# Altium integrated library Capacitors - Aluminum - Electrolytic SMT.IntLib: 1988 symbols (part 26 of 50)
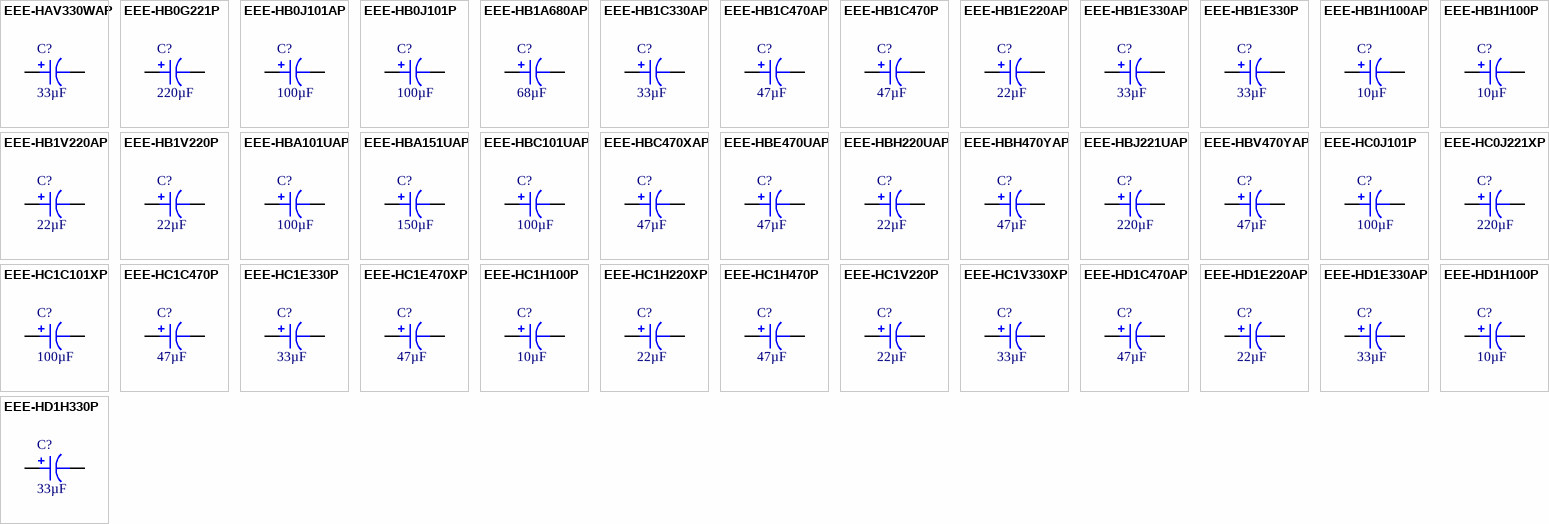
[diagram p73: symbols EEE-HAV330WAP to EEE-HD1H330P]

## EEE-HC1V220P
designator C?, comment 22µF
CAP ALUM 22UF 20% 35V SMD; Part Number: EEE-HC1V220P; Manufacturer: Panasonic Electronic Components; Lifetime @ Temp.: 3000 Hrs @ 105°C; Polarization: Polar; Ripple Current @ High Frequency: 93.5mA @ 10kHz; Ripple Current @ Low Frequency: 55mA @ 120Hz; Surface Mount Land Size: 0.260" L x 0.260" W (6.60mm x 6.60mm); Applications: Automotive; Capacitance: 22µF; ComponentLink1Description: Datasheet; ComponentLink1URL: http://industrial.panasonic.com/www-cgi/jvcr13pz.cgi?E+PZ+3+ABA0109+EEEHC1V220P+7+WW; ComponentLink2Description: DigiKey Link; ComponentLink2URL: http://digikey.com/product-detail/en/panasonic-electronic-components/EEE-HC1V220P/PCE3758CT-ND/672812; Device Package: Radial, Can - SMD; Height - Seated (Max): 0.228" (5.80mm); LastUpdated: 9/2/2020 1:18:39 AM; Lifecycle Status: Active; Minimum Order: 1; Mounting Type: Surface Mount; Operating Temperature: -40°C ~ 105°C; Package / Case: Radial, Can - SMD; Packaging: TapeAndReel; PartId: 9017; Part Status: Active; Price: 0.11; Ratings: AEC-Q200; Series: HC; Size / Dimension: 0.248" Dia (6.30mm); Supplier 1: DigiKey; Supplier Part Number 1: PCE3758CT-ND; Tolerance: ±20%; Value: 22µF; Voltage - Rated: 35V
footprint CAP ALSMD 6.6MM H6.1MM
pins: 1, 2

## EEE-HC1V330XP
designator C?, comment 33µF
CAP ALUM 33UF 20% 35V SMD; Part Number: EEE-HC1V330XP; Manufacturer: Panasonic Electronic Components; Lifetime @ Temp.: 3000 Hrs @ 105°C; Polarization: Polar; Ripple Current @ High Frequency: 96.9mA @ 10kHz; Ripple Current @ Low Frequency: 57mA @ 120Hz; Surface Mount Land Size: 0.260" L x 0.260" W (6.60mm x 6.60mm); Applications: Automotive; Capacitance: 33µF; ComponentLink1Description: Datasheet; ComponentLink1URL: http://industrial.panasonic.com/www-cgi/jvcr13pz.cgi?E+PZ+3+ABA0109+EEEHC1V330XP+7+WW; ComponentLink2Description: DigiKey Link; ComponentLink2URL: http://digikey.com/product-detail/en/panasonic-electronic-components/EEE-HC1V330XP/PCE3759CT-ND/672813; Device Package: Radial, Can - SMD; Height - Seated (Max): 0.303" (7.70mm); LastUpdated: 9/2/2020 1:25:35 AM; Lifecycle Status: Active; Minimum Order: 1; Mounting Type: Surface Mount; Operating Temperature: -40°C ~ 105°C; Package / Case: Radial, Can - SMD; Packaging: TapeAndReel; PartId: 8239; Part Status: Active; Price: 0.15; Ratings: AEC-Q200; Series: HC; Size / Dimension: 0.248" Dia (6.30mm); Supplier 1: DigiKey; Supplier Part Number 1: PCE3759CT-ND; Tolerance: ±20%; Value: 33µF; Voltage - Rated: 35V
footprint CAP ALSMD 6.6MM H7.7MM
pins: 1, 2

## EEE-HD1C470AP
designator C?, comment 47µF
CAP ALUM 47UF 20% 16V SMD; Part Number: EEE-HD1C470AP; Manufacturer: Panasonic Electronic Components; Impedance: 4 Ohms; Lifetime @ Temp.: 5000 Hrs @ 105°C; Polarization: Polar; Ripple Current @ High Frequency: 119mA @ 10kHz; Ripple Current @ Low Frequency: 70mA @ 120Hz; Surface Mount Land Size: 0.260" L x 0.260" W (6.60mm x 6.60mm); Applications: Automotive, High Temperature Reflow; Capacitance: 47µF; ComponentLink1Description: Datasheet; ComponentLink1URL: https://industrial.panasonic.com/cdbs/www-data/pdf/RDE0000/ABA0000C1163.pdf; ComponentLink2Description: DigiKey Link; ComponentLink2URL: http://digikey.com/product-detail/en/panasonic-electronic-components/EEE-HD1C470AP/PCE4951CT-ND/1985173; Device Package: Radial, Can - SMD; Height - Seated (Max): 0.228" (5.80mm); LastUpdated: 9/2/2020 1:18:37 AM; Lifecycle Status: Active; Minimum Order: 1; Mounting Type: Surface Mount; Operating Temperature: -40°C ~ 105°C; Package / Case: Radial, Can - SMD; Packaging: TapeAndReel; PartId: 8836; Part Status: Active; Price: 0.13; Ratings: AEC-Q200; Series: HD-V; Size / Dimension: 0.248" Dia (6.30mm); Supplier 1: DigiKey; Supplier Part Number 1: PCE4951CT-ND; Tolerance: ±20%; Value: 47µF; Voltage - Rated: 16V
footprint CAP ALSMD 6.6MM H6.1MM
pins: 1, 2

## EEE-HD1E220AP
designator C?, comment 22µF
CAP ALUM 22UF 20% 25V SMD; Part Number: EEE-HD1E220AP; Manufacturer: Panasonic Electronic Components; Impedance: 4 Ohms; Lifetime @ Temp.: 5000 Hrs @ 105°C; Polarization: Polar; Ripple Current @ High Frequency: 93.5mA @ 10kHz; Ripple Current @ Low Frequency: 55mA @ 120Hz; Surface Mount Land Size: 0.260" L x 0.260" W (6.60mm x 6.60mm); Applications: Automotive, High Temperature Reflow; Capacitance: 22µF; ComponentLink1Description: Datasheet; ComponentLink1URL: https://industrial.panasonic.com/cdbs/www-data/pdf/RDE0000/ABA0000C1163.pdf; ComponentLink2Description: DigiKey Link; ComponentLink2URL: http://digikey.com/product-detail/en/panasonic-electronic-components/EEE-HD1E220AP/PCE4957CT-ND/1985179; Device Package: Radial, Can - SMD; Height - Seated (Max): 0.228" (5.80mm); LastUpdated: 9/2/2020 1:18:38 AM; Lifecycle Status: Active; Minimum Order: 1; Mounting Type: Surface Mount; Operating Temperature: -40°C ~ 105°C; Package / Case: Radial, Can - SMD; Packaging: TapeAndReel; PartId: 8923; Part Status: Active; Price: 0.13; Ratings: AEC-Q200; Series: HD-V; Size / Dimension: 0.248" Dia (6.30mm); Supplier 1: DigiKey; Supplier Part Number 1: PCE4957CT-ND; Tolerance: ±20%; Value: 22µF; Voltage - Rated: 25V
footprint CAP ALSMD 6.6MM H6.1MM
pins: 1, 2

## EEE-HD1E330AP
designator C?, comment 33µF
CAP ALUM 33UF 20% 25V SMD; Part Number: EEE-HD1E330AP; Manufacturer: Panasonic Electronic Components; Impedance: 4 Ohms; Lifetime @ Temp.: 5000 Hrs @ 105°C; Polarization: Polar; Ripple Current @ High Frequency: 93.5mA @ 10kHz; Ripple Current @ Low Frequency: 55mA @ 120Hz; Surface Mount Land Size: 0.260" L x 0.260" W (6.60mm x 6.60mm); Applications: Automotive, High Temperature Reflow; Capacitance: 33µF; ComponentLink1Description: Datasheet; ComponentLink1URL: https://industrial.panasonic.com/cdbs/www-data/pdf/RDE0000/ABA0000C1163.pdf; ComponentLink2Description: DigiKey Link; ComponentLink2URL: http://digikey.com/product-detail/en/panasonic-electronic-components/EEE-HD1E330AP/PCE4958CT-ND/1985180; Device Package: Radial, Can - SMD; Height - Seated (Max): 0.228" (5.80mm); LastUpdated: 9/2/2020 1:18:37 AM; Lifecycle Status: Active; Minimum Order: 1; Mounting Type: Surface Mount; Operating Temperature: -40°C ~ 105°C; Package / Case: Radial, Can - SMD; Packaging: TapeAndReel; PartId: 8835; Part Status: Active; Price: 0.13; Ratings: AEC-Q200; Series: HD-V; Size / Dimension: 0.248" Dia (6.30mm); Supplier 1: DigiKey; Supplier Part Number 1: PCE4958CT-ND; Tolerance: ±20%; Value: 33µF; Voltage - Rated: 25V
footprint CAP ALSMD 6.6MM H6.1MM
pins: 1, 2

## EEE-HD1H100P
designator C?, comment 10µF
CAP ALUM 10UF 20% 50V SMD; Part Number: EEE-HD1H100P; Manufacturer: Panasonic Electronic Components; Impedance: 4 Ohms; Lifetime @ Temp.: 5000 Hrs @ 105°C; Polarization: Polar; Ripple Current @ High Frequency: 56.1mA @ 10kHz; Ripple Current @ Low Frequency: 33mA @ 120Hz; Surface Mount Land Size: 0.260" L x 0.260" W (6.60mm x 6.60mm); Applications: Automotive, High Temperature Reflow; Capacitance: 10µF; ComponentLink1Description: Datasheet; ComponentLink1URL: http://industrial.panasonic.com/www-cgi/jvcr13pz.cgi?E+PZ+4+ABA0100+EEEHD1H100P+8+WW; ComponentLink2Description: DigiKey Link; ComponentLink2URL: http://digikey.com/product-detail/en/panasonic-electronic-components/EEE-HD1H100P/PCE4976CT-ND/1985198; Device Package: Radial, Can - SMD; Height - Seated (Max): 0.240" (6.10mm); LastUpdated: 9/2/2020 1:25:26 AM; Lifecycle Status: Active; Minimum Order: 1; Mounting Type: Surface Mount; Operating Temperature: -40°C ~ 105°C; Package / Case: Radial, Can - SMD; Packaging: TapeAndReel; PartId: 8144; Part Status: Active; Price: 0.12; Ratings: AEC-Q200; Series: HD-V; Size / Dimension: 0.248" Dia (6.30mm); Supplier 1: DigiKey; Supplier Part Number 1: PCE4976CT-ND; Tolerance: ±20%; Value: 10µF; Voltage - Rated: 50V
footprint CAP ALSMD 6.6MM H6.1MM
pins: 1, 2

## EEE-HD1H330P
designator C?, comment 33µF
CAP ALUM 33UF 20% 50V SMD; Part Number: EEE-HD1H330P; Manufacturer: Panasonic Electronic Components; Impedance: 1.5 Ohms; Lifetime @ Temp.: 5000 Hrs @ 105°C; Polarization: Polar; Ripple Current @ High Frequency: 125.8mA @ 10kHz; Ripple Current @ Low Frequency: 74mA @ 120Hz; Surface Mount Land Size: 0.327" L x 0.327" W (8.30mm x 8.30mm); Applications: Automotive, High Temperature Reflow; Capacitance: 33µF; ComponentLink1Description: Datasheet; ComponentLink1URL: http://industrial.panasonic.com/www-cgi/jvcr13pz.cgi?E+PZ+4+ABA0100+EEEHD1H330P+8+WW; ComponentLink2Description: DigiKey Link; ComponentLink2URL: http://digikey.com/product-detail/en/panasonic-electronic-components/EEE-HD1H330P/PCE4978CT-ND/1985200; Device Package: Radial, Can - SMD; Height - Seated (Max): 0.413" (10.50mm); LastUpdated: 9/2/2020 1:25:14 AM; Lifecycle Status: Active; Minimum Order: 1; Mounting Type: Surface Mount; Operating Temperature: -40°C ~ 105°C; Package / Case: Radial, Can - SMD; Packaging: TapeAndReel; PartId: 7695; Part Status: Active; Price: 0.28; Ratings: AEC-Q200; Series: HD-V; Size / Dimension: 0.315" Dia (8.00mm); Supplier 1: DigiKey; Supplier Part Number 1: PCE4978CT-ND; Tolerance: ±20%; Value: 33µF; Voltage - Rated: 50V
footprint CAP ALSMD 8.3MM H10.5MM
pins: 1, 2

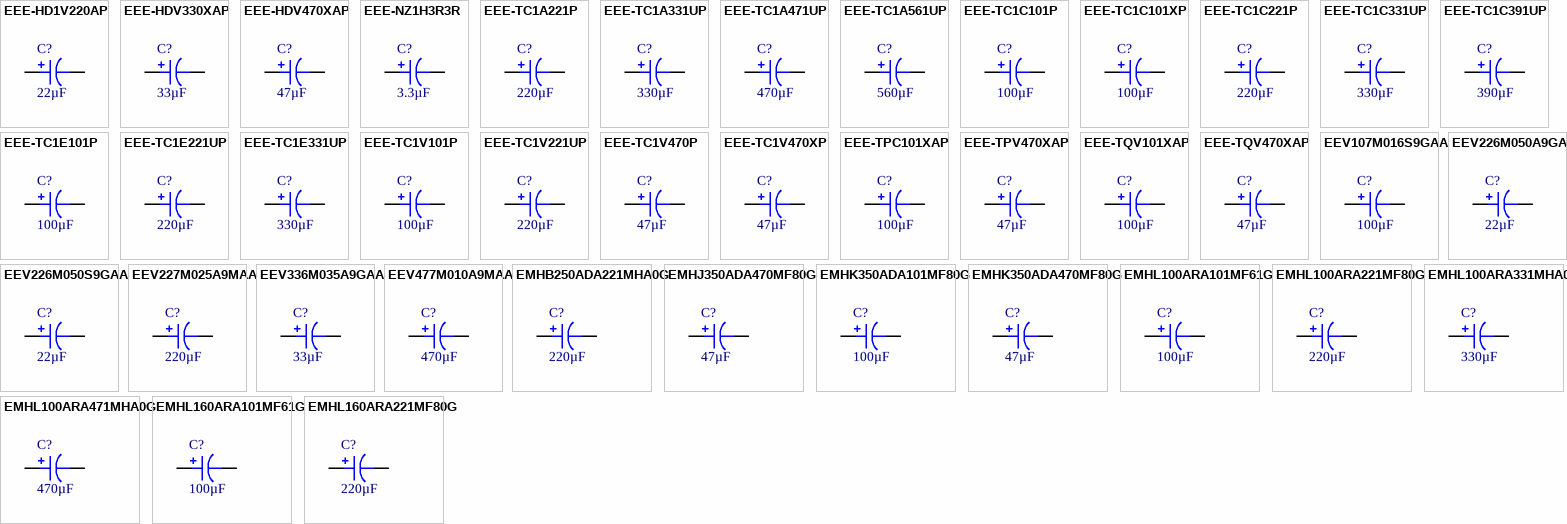
[diagram p25: symbols EEE-HD1V220AP to EMHL160ARA221MF80G]

## EEE-HD1V220AP
designator C?, comment 22µF
CAP ALUM 22UF 20% 35V SMD; Part Number: EEE-HD1V220AP; Manufacturer: Panasonic Electronic Components; Impedance: 4 Ohms; Lifetime @ Temp.: 5000 Hrs @ 105°C; Polarization: Polar; Ripple Current @ High Frequency: 93.5mA @ 10kHz; Ripple Current @ Low Frequency: 55mA @ 120Hz; Surface Mount Land Size: 0.260" L x 0.260" W (6.60mm x 6.60mm); Applications: Automotive, High Temperature Reflow; Capacitance: 22µF; ComponentLink1Description: Datasheet; ComponentLink1URL: https://industrial.panasonic.com/cdbs/www-data/pdf/RDE0000/ABA0000C1163.pdf; ComponentLink2Description: DigiKey Link; ComponentLink2URL: http://digikey.com/product-detail/en/panasonic-electronic-components/EEE-HD1V220AP/PCE4964CT-ND/1985186; Device Package: Radial, Can - SMD; Height - Seated (Max): 0.228" (5.80mm); LastUpdated: 9/2/2020 1:18:38 AM; Lifecycle Status: Active; Minimum Order: 1; Mounting Type: Surface Mount; Operating Temperature: -40°C ~ 105°C; Package / Case: Radial, Can - SMD; Packaging: TapeAndReel; PartId: 8895; Part Status: Active; Price: 0.11; Ratings: AEC-Q200; Series: HD-V; Size / Dimension: 0.248" Dia (6.30mm); Supplier 1: DigiKey; Supplier Part Number 1: PCE4964CT-ND; Tolerance: ±20%; Value: 22µF; Voltage - Rated: 35V
footprint CAP ALSMD 6.6MM H6.1MM
pins: 1, 2

## EEE-HDV330XAP
designator C?, comment 33µF
CAP ALUM 33UF 20% 35V SMD; Part Number: EEE-HDV330XAP; Manufacturer: Panasonic Electronic Components; Impedance: 2 Ohms; Lifetime @ Temp.: 5000 Hrs @ 105°C; Polarization: Polar; Ripple Current @ High Frequency: 96.9mA @ 10kHz; Ripple Current @ Low Frequency: 57mA @ 120Hz; Surface Mount Land Size: 0.260" L x 0.260" W (6.60mm x 6.60mm); Applications: Automotive, High Temperature Reflow; Capacitance: 33µF; ComponentLink1Description: Datasheet; ComponentLink1URL: http://industrial.panasonic.com/www-cgi/jvcr13pz.cgi?E+PZ+4+ABA0100+EEEHDV330XAP+8+WW; ComponentLink2Description: DigiKey Link; ComponentLink2URL: http://digikey.com/product-detail/en/panasonic-electronic-components/EEE-HDV330XAP/PCE4966CT-ND/1985188; Device Package: Radial, Can - SMD; Height - Seated (Max): 0.303" (7.70mm); LastUpdated: 9/2/2020 1:25:35 AM; Lifecycle Status: Active; Minimum Order: 1; Mounting Type: Surface Mount; Operating Temperature: -40°C ~ 105°C; Package / Case: Radial, Can - SMD; Packaging: TapeAndReel; PartId: 8244; Part Status: Active; Price: 0.16; Ratings: AEC-Q200; Series: HD-V; Size / Dimension: 0.248" Dia (6.30mm); Supplier 1: DigiKey; Supplier Part Number 1: PCE4966CT-ND; Tolerance: ±20%; Value: 33µF; Voltage - Rated: 35V
footprint CAP ALSMD 6.6MM H7.7MM
pins: 1, 2

## EEE-HDV470XAP
designator C?, comment 47µF
CAP ALUM 47UF 20% 35V SMD; Part Number: EEE-HDV470XAP; Manufacturer: Panasonic Electronic Components; Impedance: 2 Ohms; Lifetime @ Temp.: 5000 Hrs @ 105°C; Polarization: Polar; Ripple Current @ High Frequency: 96.9mA @ 10kHz; Ripple Current @ Low Frequency: 57mA @ 120Hz; Surface Mount Land Size: 0.260" L x 0.260" W (6.60mm x 6.60mm); Applications: Automotive, High Temperature Reflow; Capacitance: 47µF; ComponentLink1Description: Datasheet; ComponentLink1URL: http://industrial.panasonic.com/www-cgi/jvcr13pz.cgi?E+PZ+4+ABA0100+EEEHDV470XAP+8+WW; ComponentLink2Description: DigiKey Link; ComponentLink2URL: http://digikey.com/product-detail/en/panasonic-electronic-components/EEE-HDV470XAP/PCE4968CT-ND/1985190; Device Package: Radial, Can - SMD; Height - Seated (Max): 0.303" (7.70mm); LastUpdated: 9/2/2020 1:25:35 AM; Lifecycle Status: Active; Minimum Order: 1; Mounting Type: Surface Mount; Operating Temperature: -40°C ~ 105°C; Package / Case: Radial, Can - SMD; Packaging: TapeAndReel; PartId: 8204; Part Status: Active; Price: 0.16; Ratings: AEC-Q200; Series: HD-V; Size / Dimension: 0.248" Dia (6.30mm); Supplier 1: DigiKey; Supplier Part Number 1: PCE4968CT-ND; Tolerance: ±20%; Value: 47µF; Voltage - Rated: 35V
footprint CAP ALSMD 6.6MM H7.7MM
pins: 1, 2

## EEE-NZ1H3R3R
designator C?, comment 3.3µF
CAP ALUM 3.3UF 20% 50V SMD; Part Number: EEE-NZ1H3R3R; Manufacturer: Panasonic Electronic Components; Lifetime @ Temp.: 2000 Hrs @ 85°C; Polarization: Bi-Polar; Ripple Current @ High Frequency: 35.7mA @ 10kHz; Ripple Current @ Low Frequency: 21mA @ 120Hz; Surface Mount Land Size: 0.209" L x 0.209" W (5.30mm x 5.30mm); Applications: Automotive; Capacitance: 3.3µF; ComponentLink1Description: Datasheet; ComponentLink1URL: //media.digikey.com/pdf/Data%20Sheets/Panasonic%20Electronic%20Components/S_Series,Type_V_Rev2018.pdf; ComponentLink2Description: DigiKey Link; ComponentLink2URL: http://digikey.com/product-detail/en/panasonic-electronic-components/EEE-NZ1H3R3R/PCE4305CT-ND/946240; Device Package: Radial, Can - SMD; Height - Seated (Max): 0.213" (5.40mm); LastUpdated: 9/2/2020 1:25:24 AM; Lifecycle Status: Active; Minimum Order: 1; Mounting Type: Surface Mount; Operating Temperature: -40°C ~ 85°C; Package / Case: Radial, Can - SMD; Packaging: TapeAndReel; PartId: 7885; Part Status: Active; Price: 0.10; Ratings: AEC-Q200; Series: S; Size / Dimension: 0.197" Dia (5.00mm); Supplier 1: DigiKey; Supplier Part Number 1: PCE4305CT-ND; Tolerance: ±20%; Value: 3.3µF; Voltage - Rated: 50V
footprint CAP ALSMD 5.3MM H5.4MM
pins: 1, 2

## EEE-TC1A221P
designator C?, comment 220µF
CAP ALUM 220UF 20% 10V SMD; Part Number: EEE-TC1A221P; Manufacturer: Panasonic Electronic Components; ESR (Equivalent Series Resistance): 200mOhm @ 100kHz; Lifetime @ Temp.: 3000 Hrs @ 125°C; Polarization: Polar; Ripple Current @ Low Frequency: 266.5mA @ 120Hz; Surface Mount Land Size: 0.327" L x 0.327" W (8.30mm x 8.30mm); Applications: Automotive, High Temperature Reflow; Capacitance: 220µF; ComponentLink1Description: Datasheet; ComponentLink1URL: https://na.industrial.panasonic.com/file-download/3053; ComponentLink2Description: DigiKey Link; ComponentLink2URL: http://digikey.com/product-detail/en/panasonic-electronic-components/EEE-TC1A221P/PCE5122CT-ND/6049013; Device Package: Radial, Can - SMD; Height - Seated (Max): 0.413" (10.50mm); LastUpdated: 9/2/2020 1:25:15 AM; Lifecycle Status: Active; Minimum Order: 1; Mounting Type: Surface Mount; Operating Temperature: -40°C ~ 125°C; Package / Case: Radial, Can - SMD; Packaging: TapeAndReel; PartId: 7584; Part Status: Active; Price: 0.33; Ratings: AEC-Q200; Series: TC; Size / Dimension: 0.315" Dia (8.00mm); Supplier 1: DigiKey; Supplier Part Number 1: PCE5122CT-ND; Tolerance: ±20%; Value: 220µF; Voltage - Rated: 10V
footprint CAP ALSMD 8.3MM H10.5MM
pins: 1, 2

## EEE-TC1A331UP
designator C?, comment 330µF
CAP ALUM 330UF 20% 10V SMD; Part Number: EEE-TC1A331UP; Manufacturer: Panasonic Electronic Components; ESR (Equivalent Series Resistance): 200mOhm @ 100kHz; Lifetime @ Temp.: 3000 Hrs @ 125°C; Polarization: Polar; Ripple Current @ High Frequency: 410mA @ 100kHz; Ripple Current @ Low Frequency: 266.5mA @ 120Hz; Surface Mount Land Size: 0.327" L x 0.327" W (8.30mm x 8.30mm); Applications: Automotive, High Temperature Reflow; Capacitance: 330µF; ComponentLink1Description: Datasheet; ComponentLink1URL: https://na.industrial.panasonic.com/file-download/3048; ComponentLink2Description: DigiKey Link; ComponentLink2URL: http://digikey.com/product-detail/en/panasonic-electronic-components/EEE-TC1A331UP/PCE5253CT-ND/9596838; Device Package: Radial, Can - SMD; Height - Seated (Max): 0.413" (10.50mm); LastUpdated: 9/2/2020 1:25:13 AM; Lifecycle Status: Active; Minimum Order: 1; Mounting Type: Surface Mount; Operating Temperature: -40°C ~ 125°C; Package / Case: Radial, Can - SMD; Packaging: TapeAndReel; PartId: 7811; Part Status: Active; Price: 0.37; Ratings: AEC-Q200; Series: TCU; Size / Dimension: 0.315" Dia (8.00mm); Supplier 1: DigiKey; Supplier Part Number 1: PCE5253CT-ND; Tolerance: ±20%; Value: 330µF; Voltage - Rated: 10V
footprint CAP ALSMD 8.3MM H10.5MM
pins: 1, 2

## EEE-TC1A471UP
designator C?, comment 470µF
CAP ALUM 470UF 20% 10V SMD; Part Number: EEE-TC1A471UP; Manufacturer: Panasonic Electronic Components; ESR (Equivalent Series Resistance): 200mOhm @ 100kHz; Lifetime @ Temp.: 3000 Hrs @ 125°C; Polarization: Polar; Ripple Current @ High Frequency: 410mA @ 100kHz; Ripple Current @ Low Frequency: 266.5mA @ 120Hz; Surface Mount Land Size: 0.327" L x 0.327" W (8.30mm x 8.30mm); Applications: Automotive, High Temperature Reflow; Capacitance: 470µF; ComponentLink1Description: Datasheet; ComponentLink1URL: https://na.industrial.panasonic.com/file-download/3048; ComponentLink2Description: DigiKey Link; ComponentLink2URL: http://digikey.com/product-detail/en/panasonic-electronic-components/EEE-TC1A471UP/PCE5254CT-ND/9596839; Device Package: Radial, Can - SMD; Height - Seated (Max): 0.413" (10.50mm); LastUpdated: 9/2/2020 1:25:13 AM; Lifecycle Status: Active; Minimum Order: 1; Mounting Type: Surface Mount; Operating Temperature: -40°C ~ 125°C; Package / Case: Radial, Can - SMD; Packaging: TapeAndReel; PartId: 7812; Part Status: Active; Price: 0.37; Ratings: AEC-Q200; Series: TCU; Size / Dimension: 0.315" Dia (8.00mm); Supplier 1: DigiKey; Supplier Part Number 1: PCE5254CT-ND; Tolerance: ±20%; Value: 470µF; Voltage - Rated: 10V
footprint CAP ALSMD 8.3MM H10.5MM
pins: 1, 2

## EEE-TC1A561UP
designator C?, comment 560µF
CAP ALUM 560UF 20% 10V SMD; Part Number: EEE-TC1A561UP; Manufacturer: Panasonic Electronic Components; ESR (Equivalent Series Resistance): 200mOhm @ 100kHz; Lifetime @ Temp.: 3000 Hrs @ 125°C; Polarization: Polar; Ripple Current @ High Frequency: 410mA @ 100kHz; Ripple Current @ Low Frequency: 266.5mA @ 120Hz; Surface Mount Land Size: 0.327" L x 0.327" W (8.30mm x 8.30mm); Applications: Automotive, High Temperature Reflow; Capacitance: 560µF; ComponentLink1Description: Datasheet; ComponentLink1URL: https://na.industrial.panasonic.com/file-download/3048; ComponentLink2Description: DigiKey Link; ComponentLink2URL: http://digikey.com/product-detail/en/panasonic-electronic-components/EEE-TC1A561UP/PCE5255CT-ND/9596840; Device Package: Radial, Can - SMD; Height - Seated (Max): 0.413" (10.50mm); LastUpdated: 9/2/2020 1:25:13 AM; Lifecycle Status: Active; Minimum Order: 1; Mounting Type: Surface Mount; Operating Temperature: -40°C ~ 125°C; Package / Case: Radial, Can - SMD; Packaging: TapeAndReel; PartId: 7813; Part Status: Active; Price: 0.37; Ratings: AEC-Q200; Series: TCU; Size / Dimension: 0.315" Dia (8.00mm); Supplier 1: DigiKey; Supplier Part Number 1: PCE5255CT-ND; Tolerance: ±20%; Value: 560µF; Voltage - Rated: 10V
footprint CAP ALSMD 8.3MM H10.5MM
pins: 1, 2

## EEE-TC1C101P
designator C?, comment 100µF
CAP ALUM 100UF 20% 16V SMD; Part Number: EEE-TC1C101P; Manufacturer: Panasonic Electronic Components; ESR (Equivalent Series Resistance): 200mOhm @ 100kHz; Lifetime @ Temp.: 3000 Hrs @ 125°C; Polarization: Polar; Ripple Current @ Low Frequency: 266.5mA @ 120Hz; Surface Mount Land Size: 0.327" L x 0.327" W (8.30mm x 8.30mm); Applications: Automotive, High Temperature Reflow; Capacitance: 100µF; ComponentLink1Description: Datasheet; ComponentLink1URL: https://na.industrial.panasonic.com/file-download/3053; ComponentLink2Description: DigiKey Link; ComponentLink2URL: http://digikey.com/product-detail/en/panasonic-electronic-components/EEE-TC1C101P/PCE5126CT-ND/6049017; Device Package: Radial, Can - SMD; Height - Seated (Max): 0.413" (10.50mm); LastUpdated: 9/2/2020 1:25:14 AM; Lifecycle Status: Active; Minimum Order: 1; Mounting Type: Surface Mount; Operating Temperature: -40°C ~ 125°C; Package / Case: Radial, Can - SMD; Packaging: TapeAndReel; PartId: 7697; Part Status: Active; Price: 0.35; Ratings: AEC-Q200; Series: TC; Size / Dimension: 0.315" Dia (8.00mm); Supplier 1: DigiKey; Supplier Part Number 1: PCE5126CT-ND; Tolerance: ±20%; Value: 100µF; Voltage - Rated: 16V
footprint CAP ALSMD 8.3MM H10.5MM
pins: 1, 2

## EEE-TC1C101XP
designator C?, comment 100µF
CAP ALUM 100UF 20% 16V SMD; Part Number: EEE-TC1C101XP; Manufacturer: Panasonic Electronic Components; ESR (Equivalent Series Resistance): 450mOhm @ 100kHz; Lifetime @ Temp.: 2000 Hrs @ 125°C; Polarization: Polar; Ripple Current @ Low Frequency: 195mA @ 120Hz; Surface Mount Land Size: 0.260" L x 0.260" W (6.60mm x 6.60mm); Applications: Automotive, High Temperature Reflow; Capacitance: 100µF; ComponentLink1Description: Datasheet; ComponentLink1URL: https://na.industrial.panasonic.com/file-download/3053; ComponentLink2Description: DigiKey Link; ComponentLink2URL: http://digikey.com/product-detail/en/panasonic-electronic-components/EEE-TC1C101XP/PCE5125CT-ND/6049016; Device Package: Radial, Can - SMD; Height - Seated (Max): 0.315" (8.00mm); LastUpdated: 9/2/2020 1:25:37 AM; Lifecycle Status: Active; Minimum Order: 1; Mounting Type: Surface Mount; Operating Temperature: -40°C ~ 125°C; Package / Case: Radial, Can - SMD; Packaging: TapeAndReel; PartId: 8480; Part Status: Active; Price: 0.23; Ratings: AEC-Q200; Series: TC; Size / Dimension: 0.248" Dia (6.30mm); Supplier 1: DigiKey; Supplier Part Number 1: PCE5125CT-ND; Tolerance: ±20%; Value: 100µF; Voltage - Rated: 16V
footprint CAP ALSMD 6.6MM H8.0MM
pins: 1, 2

## EEE-TC1C221P
designator C?, comment 220µF
CAP ALUM 220UF 20% 16V SMD; Part Number: EEE-TC1C221P; Manufacturer: Panasonic Electronic Components; ESR (Equivalent Series Resistance): 200mOhm @ 100kHz; Lifetime @ Temp.: 3000 Hrs @ 125°C; Polarization: Polar; Ripple Current @ Low Frequency: 266.5mA @ 120Hz; Surface Mount Land Size: 0.327" L x 0.327" W (8.30mm x 8.30mm); Applications: Automotive, High Temperature Reflow; Capacitance: 220µF; ComponentLink1Description: Datasheet; ComponentLink1URL: https://na.industrial.panasonic.com/file-download/3053; ComponentLink2Description: DigiKey Link; ComponentLink2URL: http://digikey.com/product-detail/en/panasonic-electronic-components/EEE-TC1C221P/PCE5127CT-ND/6049018; Device Package: Radial, Can - SMD; Height - Seated (Max): 0.413" (10.50mm); LastUpdated: 9/2/2020 1:25:14 AM; Lifecycle Status: Active; Minimum Order: 1; Mounting Type: Surface Mount; Operating Temperature: -40°C ~ 125°C; Package / Case: Radial, Can - SMD; Packaging: TapeAndReel; PartId: 7663; Part Status: Active; Price: 0.33; Ratings: AEC-Q200; Series: TC; Size / Dimension: 0.315" Dia (8.00mm); Supplier 1: DigiKey; Supplier Part Number 1: PCE5127CT-ND; Tolerance: ±20%; Value: 220µF; Voltage - Rated: 16V
footprint CAP ALSMD 8.3MM H10.5MM
pins: 1, 2

## EEE-TC1C331UP
designator C?, comment 330µF
CAP ALUM 330UF 20% 16V SMD; Part Number: EEE-TC1C331UP; Manufacturer: Panasonic Electronic Components; ESR (Equivalent Series Resistance): 200mOhm @ 100kHz; Lifetime @ Temp.: 3000 Hrs @ 125°C; Polarization: Polar; Ripple Current @ High Frequency: 410mA @ 100kHz; Ripple Current @ Low Frequency: 266.5mA @ 120Hz; Surface Mount Land Size: 0.327" L x 0.327" W (8.30mm x 8.30mm); Applications: Automotive, High Temperature Reflow; Capacitance: 330µF; ComponentLink1Description: Datasheet; ComponentLink1URL: https://na.industrial.panasonic.com/file-download/3048; ComponentLink2Description: DigiKey Link; ComponentLink2URL: http://digikey.com/product-detail/en/panasonic-electronic-components/EEE-TC1C331UP/PCE5257CT-ND/9596842; Device Package: Radial, Can - SMD; Height - Seated (Max): 0.413" (10.50mm); LastUpdated: 9/2/2020 1:25:13 AM; Lifecycle Status: Active; Minimum Order: 1; Mounting Type: Surface Mount; Operating Temperature: -40°C ~ 125°C; Package / Case: Radial, Can - SMD; Packaging: TapeAndReel; PartId: 7814; Part Status: Active; Price: 0.37; Ratings: AEC-Q200; Series: TCU; Size / Dimension: 0.315" Dia (8.00mm); Supplier 1: DigiKey; Supplier Part Number 1: PCE5257CT-ND; Tolerance: ±20%; Value: 330µF; Voltage - Rated: 16V
footprint CAP ALSMD 8.3MM H10.5MM
pins: 1, 2

## EEE-TC1C391UP
designator C?, comment 390µF
CAP ALUM 390UF 20% 16V SMD; Part Number: EEE-TC1C391UP; Manufacturer: Panasonic Electronic Components; ESR (Equivalent Series Resistance): 200mOhm @ 100kHz; Lifetime @ Temp.: 3000 Hrs @ 125°C; Polarization: Polar; Ripple Current @ High Frequency: 410mA @ 100kHz; Ripple Current @ Low Frequency: 266.5mA @ 120Hz; Surface Mount Land Size: 0.327" L x 0.327" W (8.30mm x 8.30mm); Applications: Automotive, High Temperature Reflow; Capacitance: 390µF; ComponentLink1Description: Datasheet; ComponentLink1URL: https://na.industrial.panasonic.com/file-download/3048; ComponentLink2Description: DigiKey Link; ComponentLink2URL: http://digikey.com/product-detail/en/panasonic-electronic-components/EEE-TC1C391UP/PCE5258CT-ND/9596843; Device Package: Radial, Can - SMD; Height - Seated (Max): 0.413" (10.50mm); LastUpdated: 9/2/2020 1:25:13 AM; Lifecycle Status: Active; Minimum Order: 1; Mounting Type: Surface Mount; Operating Temperature: -40°C ~ 125°C; Package / Case: Radial, Can - SMD; Packaging: TapeAndReel; PartId: 7815; Part Status: Active; Price: 0.37; Ratings: AEC-Q200; Series: TCU; Size / Dimension: 0.315" Dia (8.00mm); Supplier 1: DigiKey; Supplier Part Number 1: PCE5258CT-ND; Tolerance: ±20%; Value: 390µF; Voltage - Rated: 16V
footprint CAP ALSMD 8.3MM H10.5MM
pins: 1, 2

## EEE-TC1E101P
designator C?, comment 100µF
CAP ALUM 100UF 20% 25V SMD; Part Number: EEE-TC1E101P; Manufacturer: Panasonic Electronic Components; ESR (Equivalent Series Resistance): 200mOhm @ 100kHz; Lifetime @ Temp.: 3000 Hrs @ 125°C; Polarization: Polar; Ripple Current @ Low Frequency: 266.5mA @ 120Hz; Surface Mount Land Size: 0.327" L x 0.327" W (8.30mm x 8.30mm); Applications: Automotive, High Temperature Reflow; Capacitance: 100µF; ComponentLink1Description: Datasheet; ComponentLink1URL: https://na.industrial.panasonic.com/file-download/3053; ComponentLink2Description: DigiKey Link; ComponentLink2URL: http://digikey.com/product-detail/en/panasonic-electronic-components/EEE-TC1E101P/PCE5130CT-ND/6049021; Device Package: Radial, Can - SMD; Height - Seated (Max): 0.413" (10.50mm); LastUpdated: 9/2/2020 1:25:16 AM; Lifecycle Status: Active; Minimum Order: 1; Mounting Type: Surface Mount; Operating Temperature: -40°C ~ 125°C; Package / Case: Radial, Can - SMD; Packaging: TapeAndReel; PartId: 7495; Part Status: Active; Price: 0.33; Ratings: AEC-Q200; Series: TC; Size / Dimension: 0.315" Dia (8.00mm); Supplier 1: DigiKey; Supplier Part Number 1: PCE5130CT-ND; Tolerance: ±20%; Value: 100µF; Voltage - Rated: 25V
footprint CAP ALSMD 8.3MM H10.5MM
pins: 1, 2

## EEE-TC1E221UP
designator C?, comment 220µF
CAP ALUM 220UF 20% 25V SMD; Part Number: EEE-TC1E221UP; Manufacturer: Panasonic Electronic Components; ESR (Equivalent Series Resistance): 200mOhm @ 100kHz; Lifetime @ Temp.: 3000 Hrs @ 125°C; Polarization: Polar; Ripple Current @ High Frequency: 410mA @ 100kHz; Ripple Current @ Low Frequency: 266.5mA @ 120Hz; Surface Mount Land Size: 0.327" L x 0.327" W (8.30mm x 8.30mm); Applications: Automotive, High Temperature Reflow; Capacitance: 220µF; ComponentLink1Description: Datasheet; ComponentLink1URL: https://na.industrial.panasonic.com/file-download/3048; ComponentLink2Description: DigiKey Link; ComponentLink2URL: http://digikey.com/product-detail/en/panasonic-electronic-components/EEE-TC1E221UP/PCE5260CT-ND/9596845; Device Package: Radial, Can - SMD; Height - Seated (Max): 0.413" (10.50mm); LastUpdated: 9/2/2020 1:25:13 AM; Lifecycle Status: Active; Minimum Order: 1; Mounting Type: Surface Mount; Operating Temperature: -40°C ~ 125°C; Package / Case: Radial, Can - SMD; Packaging: TapeAndReel; PartId: 7816; Part Status: Active; Price: 0.37; Ratings: AEC-Q200; Series: TCU; Size / Dimension: 0.315" Dia (8.00mm); Supplier 1: DigiKey; Supplier Part Number 1: PCE5260CT-ND; Tolerance: ±20%; Value: 220µF; Voltage - Rated: 25V
footprint CAP ALSMD 8.3MM H10.5MM
pins: 1, 2

## EEE-TC1E331UP
designator C?, comment 330µF
CAP ALUM 330UF 20% 25V SMD; Part Number: EEE-TC1E331UP; Manufacturer: Panasonic Electronic Components; ESR (Equivalent Series Resistance): 200mOhm @ 100kHz; Lifetime @ Temp.: 3000 Hrs @ 125°C; Polarization: Polar; Ripple Current @ High Frequency: 410mA @ 100kHz; Ripple Current @ Low Frequency: 266.5mA @ 120Hz; Surface Mount Land Size: 0.327" L x 0.327" W (8.30mm x 8.30mm); Applications: Automotive, High Temperature Reflow; Capacitance: 330µF; ComponentLink1Description: Datasheet; ComponentLink1URL: https://na.industrial.panasonic.com/file-download/3048; ComponentLink2Description: DigiKey Link; ComponentLink2URL: http://digikey.com/product-detail/en/panasonic-electronic-components/EEE-TC1E331UP/PCE5261CT-ND/9596846; Device Package: Radial, Can - SMD; Height - Seated (Max): 0.413" (10.50mm); LastUpdated: 9/2/2020 1:25:13 AM; Lifecycle Status: Active; Minimum Order: 1; Mounting Type: Surface Mount; Operating Temperature: -40°C ~ 125°C; Package / Case: Radial, Can - SMD; Packaging: TapeAndReel; PartId: 7751; Part Status: Active; Price: 0.37; Ratings: AEC-Q200; Series: TCU; Size / Dimension: 0.315" Dia (8.00mm); Supplier 1: DigiKey; Supplier Part Number 1: PCE5261CT-ND; Tolerance: ±20%; Value: 330µF; Voltage - Rated: 25V
footprint CAP ALSMD 8.3MM H10.5MM
pins: 1, 2

## EEE-TC1V101P
designator C?, comment 100µF
CAP ALUM 100UF 20% 35V SMD; Part Number: EEE-TC1V101P; Manufacturer: Panasonic Electronic Components; ESR (Equivalent Series Resistance): 200mOhm @ 100kHz; Lifetime @ Temp.: 3000 Hrs @ 125°C; Polarization: Polar; Ripple Current @ Low Frequency: 266.5mA @ 120Hz; Surface Mount Land Size: 0.327" L x 0.327" W (8.30mm x 8.30mm); Applications: Automotive, High Temperature Reflow; Capacitance: 100µF; ComponentLink1Description: Datasheet; ComponentLink1URL: https://na.industrial.panasonic.com/file-download/3053; ComponentLink2Description: DigiKey Link; ComponentLink2URL: http://digikey.com/product-detail/en/panasonic-electronic-components/EEE-TC1V101P/PCE5135CT-ND/6049026; Device Package: Radial, Can - SMD; Height - Seated (Max): 0.413" (10.50mm); LastUpdated: 9/2/2020 1:25:15 AM; Lifecycle Status: Active; Minimum Order: 1; Mounting Type: Surface Mount; Operating Temperature: -40°C ~ 125°C; Package / Case: Radial, Can - SMD; Packaging: TapeAndReel; PartId: 7585; Part Status: Active; Price: 0.33; Ratings: AEC-Q200; Series: TC; Size / Dimension: 0.315" Dia (8.00mm); Supplier 1: DigiKey; Supplier Part Number 1: PCE5135CT-ND; Tolerance: ±20%; Value: 100µF; Voltage - Rated: 35V
footprint CAP ALSMD 8.3MM H10.5MM
pins: 1, 2

## EEE-TC1V221UP
designator C?, comment 220µF
CAP ALUM 220UF 20% 35V SMD; Part Number: EEE-TC1V221UP; Manufacturer: Panasonic Electronic Components; ESR (Equivalent Series Resistance): 200mOhm @ 100kHz; Lifetime @ Temp.: 3000 Hrs @ 125°C; Polarization: Polar; Ripple Current @ High Frequency: 410mA @ 100kHz; Ripple Current @ Low Frequency: 266.5mA @ 120Hz; Surface Mount Land Size: 0.327" L x 0.327" W (8.30mm x 8.30mm); Applications: Automotive, High Temperature Reflow; Capacitance: 220µF; ComponentLink1Description: Datasheet; ComponentLink1URL: https://na.industrial.panasonic.com/file-download/3048; ComponentLink2Description: DigiKey Link; ComponentLink2URL: http://digikey.com/product-detail/en/panasonic-electronic-components/EEE-TC1V221UP/PCE5263CT-ND/9596848; Device Package: Radial, Can - SMD; Height - Seated (Max): 0.413" (10.50mm); LastUpdated: 9/2/2020 1:25:13 AM; Lifecycle Status: Active; Minimum Order: 1; Mounting Type: Surface Mount; Operating Temperature: -40°C ~ 125°C; Package / Case: Radial, Can - SMD; Packaging: TapeAndReel; PartId: 7750; Part Status: Active; Price: 0.37; Ratings: AEC-Q200; Series: TCU; Size / Dimension: 0.315" Dia (8.00mm); Supplier 1: DigiKey; Supplier Part Number 1: PCE5263CT-ND; Tolerance: ±20%; Value: 220µF; Voltage - Rated: 35V
footprint CAP ALSMD 8.3MM H10.5MM
pins: 1, 2

## EEE-TC1V470P
designator C?, comment 47µF
CAP ALUM 47UF 20% 35V SMD; Part Number: EEE-TC1V470P; Manufacturer: Panasonic Electronic Components; ESR (Equivalent Series Resistance): 200mOhm @ 100kHz; Lifetime @ Temp.: 3000 Hrs @ 125°C; Polarization: Polar; Ripple Current @ Low Frequency: 266.5mA @ 120Hz; Surface Mount Land Size: 0.327" L x 0.327" W (8.30mm x 8.30mm); Applications: Automotive, High Temperature Reflow; Capacitance: 47µF; ComponentLink1Description: Datasheet; ComponentLink1URL: https://na.industrial.panasonic.com/file-download/3053; ComponentLink2Description: DigiKey Link; ComponentLink2URL: http://digikey.com/product-detail/en/panasonic-electronic-components/EEE-TC1V470P/PCE5134CT-ND/6049025; Device Package: Radial, Can - SMD; Height - Seated (Max): 0.413" (10.50mm); LastUpdated: 9/2/2020 1:25:13 AM; Lifecycle Status: Active; Minimum Order: 1; Mounting Type: Surface Mount; Operating Temperature: -40°C ~ 125°C; Package / Case: Radial, Can - SMD; Packaging: TapeAndReel; PartId: 7789; Part Status: Active; Price: 0.35; Ratings: AEC-Q200; Series: TC; Size / Dimension: 0.315" Dia (8.00mm); Supplier 1: DigiKey; Supplier Part Number 1: PCE5134CT-ND; Tolerance: ±20%; Value: 47µF; Voltage - Rated: 35V
footprint CAP ALSMD 8.3MM H10.5MM
pins: 1, 2

## EEE-TC1V470XP
designator C?, comment 47µF
CAP ALUM 47UF 20% 35V SMD; Part Number: EEE-TC1V470XP; Manufacturer: Panasonic Electronic Components; ESR (Equivalent Series Resistance): 450mOhm @ 100kHz; Lifetime @ Temp.: 2000 Hrs @ 125°C; Polarization: Polar; Ripple Current @ Low Frequency: 195mA @ 120Hz; Surface Mount Land Size: 0.260" L x 0.260" W (6.60mm x 6.60mm); Applications: Automotive, High Temperature Reflow; Capacitance: 47µF; ComponentLink1Description: Datasheet; ComponentLink1URL: https://na.industrial.panasonic.com/file-download/3053; ComponentLink2Description: DigiKey Link; ComponentLink2URL: http://digikey.com/product-detail/en/panasonic-electronic-components/EEE-TC1V470XP/PCE5133CT-ND/6049024; Device Package: Radial, Can - SMD; Height - Seated (Max): 0.315" (8.00mm); LastUpdated: 9/2/2020 1:25:38 AM; Lifecycle Status: Active; Minimum Order: 1; Mounting Type: Surface Mount; Operating Temperature: -40°C ~ 125°C; Package / Case: Radial, Can - SMD; Packaging: TapeAndReel; PartId: 8425; Part Status: Active; Price: 0.22; Ratings: AEC-Q200; Series: TC; Size / Dimension: 0.248" Dia (6.30mm); Supplier 1: DigiKey; Supplier Part Number 1: PCE5133CT-ND; Tolerance: ±20%; Value: 47µF; Voltage - Rated: 35V
footprint CAP ALSMD 6.6MM H8.0MM
pins: 1, 2

## EEE-TPC101XAP
designator C?, comment 100µF
CAP ALUM 100UF 20% 16V SMD; Part Number: EEE-TPC101XAP; Manufacturer: Panasonic Electronic Components; Lifetime @ Temp.: 2000 Hrs @ 125°C; Polarization: Polar; Ripple Current @ High Frequency: 197mA @ 100kHz; Ripple Current @ Low Frequency: 128.1mA @ 120Hz; Surface Mount Land Size: 0.260" L x 0.260" W (6.60mm x 6.60mm); Applications: Automotive, High Temperature Reflow; Capacitance: 100µF; ComponentLink1Description: Datasheet; ComponentLink1URL: http://industrial.panasonic.com/www-cgi/jvcr13pz.cgi?E+PZ+3+ABA0122+EEETPC101XAP+7+WW; ComponentLink2Description: DigiKey Link; ComponentLink2URL: http://digikey.com/product-detail/en/panasonic-electronic-components/EEE-TPC101XAP/PCE4924CT-ND/1975648; Device Package: Radial, Can - SMD; Height - Seated (Max): 0.303" (7.70mm); LastUpdated: 9/2/2020 1:25:34 AM; Lifecycle Status: Active; Minimum Order: 1; Mounting Type: Surface Mount; Operating Temperature: -40°C ~ 125°C; Package / Case: Radial, Can - SMD; Packaging: TapeAndReel; PartId: 8272; Part Status: Active; Price: 0.23; Ratings: AEC-Q200; Series: TP; Size / Dimension: 0.248" Dia (6.30mm); Supplier 1: DigiKey; Supplier Part Number 1: PCE4924CT-ND; Tolerance: ±20%; Value: 100µF; Voltage - Rated: 16V
footprint CAP ALSMD 6.6MM H7.7MM
pins: 1, 2

## EEE-TPV470XAP
designator C?, comment 47µF
CAP ALUM 47UF 20% 35V SMD; Part Number: EEE-TPV470XAP; Manufacturer: Panasonic Electronic Components; Lifetime @ Temp.: 2000 Hrs @ 125°C; Polarization: Polar; Ripple Current @ High Frequency: 197mA @ 100kHz; Ripple Current @ Low Frequency: 128.1mA @ 120Hz; Surface Mount Land Size: 0.260" L x 0.260" W (6.60mm x 6.60mm); Applications: Automotive, High Temperature Reflow; Capacitance: 47µF; ComponentLink1Description: Datasheet; ComponentLink1URL: http://industrial.panasonic.com/www-cgi/jvcr13pz.cgi?E+PZ+3+ABA0122+EEETPV470XAP+7+WW; ComponentLink2Description: DigiKey Link; ComponentLink2URL: http://digikey.com/product-detail/en/panasonic-electronic-components/EEE-TPV470XAP/PCE4932CT-ND/1975656; Device Package: Radial, Can - SMD; Height - Seated (Max): 0.303" (7.70mm); LastUpdated: 9/2/2020 1:25:35 AM; Lifecycle Status: Active; Minimum Order: 1; Mounting Type: Surface Mount; Operating Temperature: -40°C ~ 125°C; Package / Case: Radial, Can - SMD; Packaging: TapeAndReel; PartId: 8217; Part Status: Active; Price: 0.23; Ratings: AEC-Q200; Series: TP; Size / Dimension: 0.248" Dia (6.30mm); Supplier 1: DigiKey; Supplier Part Number 1: PCE4932CT-ND; Tolerance: ±20%; Value: 47µF; Voltage - Rated: 35V
footprint CAP ALSMD 6.6MM H7.7MM
pins: 1, 2

## EEE-TQV101XAP
designator C?, comment 100µF
CAP ALUM 100UF 20% 35V SMD; Part Number: EEE-TQV101XAP; Manufacturer: Panasonic Electronic Components; ESR (Equivalent Series Resistance): 300mOhm @ 100kHz; Lifetime @ Temp.: 2000 Hrs @ 125°C; Polarization: Polar; Ripple Current @ High Frequency: 197mA @ 100kHz; Ripple Current @ Low Frequency: 128.05mA @ 120Hz; Surface Mount Land Size: 0.260" L x 0.260" W (6.60mm x 6.60mm); Applications: Automotive, High Temperature Reflow; Capacitance: 100µF; ComponentLink1Description: Datasheet; ComponentLink1URL: https://industrial.panasonic.com/cdbs/www-data/pdf/RDE0000/ABA0000C1199.pdf; ComponentLink2Description: DigiKey Link; ComponentLink2URL: http://digikey.com/product-detail/en/panasonic-electronic-components/EEE-TQV101XAP/PCE5051CT-ND/3837540; Device Package: Radial, Can - SMD; Height - Seated (Max): 0.315" (8.00mm); LastUpdated: 9/2/2020 1:25:38 AM; Lifecycle Status: Active; Minimum Order: 1; Mounting Type: Surface Mount; Operating Temperature: -40°C ~ 125°C; Package / Case: Radial, Can - SMD; Packaging: TapeAndReel; PartId: 8377; Part Status: Active; Price: 0.31; Ratings: AEC-Q200; Series: TQ; Size / Dimension: 0.248" Dia (6.30mm); Supplier 1: DigiKey; Supplier Part Number 1: PCE5051CT-ND; Tolerance: ±20%; Value: 100µF; Voltage - Rated: 35V
footprint CAP ALSMD 6.6MM H8.0MM
pins: 1, 2

## EEE-TQV470XAP
designator C?, comment 47µF
CAP ALUM 47UF 20% 35V SMD; Part Number: EEE-TQV470XAP; Manufacturer: Panasonic Electronic Components; ESR (Equivalent Series Resistance): 300mOhm @ 100kHz; Lifetime @ Temp.: 2000 Hrs @ 125°C; Polarization: Polar; Ripple Current @ High Frequency: 197mA @ 100kHz; Ripple Current @ Low Frequency: 128.05mA @ 120Hz; Surface Mount Land Size: 0.260" L x 0.260" W (6.60mm x 6.60mm); Applications: Automotive, High Temperature Reflow; Capacitance: 47µF; ComponentLink1Description: Datasheet; ComponentLink1URL: https://industrial.panasonic.com/cdbs/www-data/pdf/RDE0000/ABA0000C1199.pdf; ComponentLink2Description: DigiKey Link; ComponentLink2URL: http://digikey.com/product-detail/en/panasonic-electronic-components/EEE-TQV470XAP/PCE5052CT-ND/3837541; Device Package: Radial, Can - SMD; Height - Seated (Max): 0.315" (8.00mm); LastUpdated: 9/2/2020 1:25:37 AM; Lifecycle Status: Active; Minimum Order: 1; Mounting Type: Surface Mount; Operating Temperature: -40°C ~ 125°C; Package / Case: Radial, Can - SMD; Packaging: TapeAndReel; PartId: 8515; Part Status: Active; Price: 0.31; Ratings: AEC-Q200; Series: TQ; Size / Dimension: 0.248" Dia (6.30mm); Supplier 1: DigiKey; Supplier Part Number 1: PCE5052CT-ND; Tolerance: ±20%; Value: 47µF; Voltage - Rated: 35V
footprint CAP ALSMD 6.6MM H8.0MM
pins: 1, 2

## EEV107M016S9GAA
designator C?, comment 100µF
CAP ALUM 100UF 20% 16V SMD; Part Number: EEV107M016S9GAA; Manufacturer: KEMET; ESR (Equivalent Series Resistance): 520mOhm @ 100kHz; Impedance: 520 mOhms; Lifetime @ Temp.: 2000 Hrs @ 105°C; Polarization: Polar; Ripple Current @ High Frequency: 240mA @ 100kHz; Ripple Current @ Low Frequency: 168mA @ 120Hz; Surface Mount Land Size: 0.260" L x 0.260" W (6.60mm x 6.60mm); Applications: Automotive; Capacitance: 100µF; ComponentLink1Description: Datasheet; ComponentLink1URL: https://api.kemet.com/component-edge/download/datasheet/EEV107M016S9GAA.pdf; ComponentLink2Description: DigiKey Link; ComponentLink2URL: http://digikey.com/product-detail/en/kemet/EEV107M016S9GAA/399-17341-1-ND/8602609; Device Package: Radial, Can - SMD; Height - Seated (Max): 0.222" (5.65mm); LastUpdated: 9/2/2020 1:18:38 AM; Lifecycle Status: Active; Minimum Order: 1; Mounting Type: Surface Mount; Operating Temperature: -55°C ~ 105°C; Package / Case: Radial, Can - SMD; Packaging: TapeAndReel; PartId: 8900; Part Status: Active; Price: 0.09; Ratings: AEC-Q200; Series: EEV; Size / Dimension: 0.248" Dia (6.30mm); Supplier 1: DigiKey; Supplier Part Number 1: 399-17341-1-ND; Tolerance: ±20%; Value: 100µF; Voltage - Rated: 16V
footprint CAP ALSMD 6.6MM H6.1MM
pins: 1, 2

## EEV226M050A9GAA
designator C?, comment 22µF
CAP ALUM SMD 105C 22UF 50VDC; Part Number: EEV226M050A9GAA; Manufacturer: KEMET; ESR (Equivalent Series Resistance): 2Ohm @ 100kHz; Impedance: 2 Ohms; Lifetime @ Temp.: 2000 Hrs @ 105°C; Polarization: Polar; Ripple Current @ High Frequency: 70mA @ 100kHz; Ripple Current @ Low Frequency: 49mA @ 120Hz; Surface Mount Land Size: 0.260" L x 0.260" W (6.60mm x 6.60mm); Tolerance: ±20%; Voltage - Rated: 50V; Applications: General Purpose; Capacitance: 22µF; ComponentLink1Description: Datasheet; ComponentLink1URL: https://api.kemet.com/component-edge/download/datasheet/EEV226M050A9GAA.pdf; ComponentLink2Description: DigiKey Link; ComponentLink2URL: http://digikey.com/product-detail/en/kemet/EEV226M050A9GAA/399-18142-1-ND/9354343; Device Package: Radial, Can - SMD; Height - Seated (Max): 0.222" (5.65mm); LastUpdated: 9/2/2020 1:18:39 AM; Lifecycle Status: Active; Minimum Order: 1; Mounting Type: Surface Mount; Operating Temperature: -55°C ~ 105°C; Package / Case: Radial, Can - SMD; Packaging: TapeAndReel; PartId: 9014; Part Status: Active; Price: 0.08; Series: EEV; Size / Dimension: 0.248" Dia (6.30mm); Supplier 1: DigiKey; Supplier Part Number 1: 399-18142-1-ND; Value: 22µF
footprint CAP ALSMD 6.6MM H6.1MM
pins: 1, 2

## EEV226M050S9GAA
designator C?, comment 22µF
CAP ALUM 22UF 20% 50V SMD; Part Number: EEV226M050S9GAA; Manufacturer: KEMET; ESR (Equivalent Series Resistance): 2Ohm @ 100kHz; Impedance: 2 Ohms; Lifetime @ Temp.: 2000 Hrs @ 105°C; Polarization: Polar; Ripple Current @ High Frequency: 70mA @ 100kHz; Ripple Current @ Low Frequency: 49mA @ 120Hz; Surface Mount Land Size: 0.260" L x 0.260" W (6.60mm x 6.60mm); Applications: Automotive; Capacitance: 22µF; ComponentLink1Description: Datasheet; ComponentLink1URL: https://api.kemet.com/component-edge/download/datasheet/EEV226M050S9GAA.pdf; ComponentLink2Description: DigiKey Link; ComponentLink2URL: http://digikey.com/product-detail/en/kemet/EEV226M050S9GAA/399-17342-1-ND/8602610; Device Package: Radial, Can - SMD; Height - Seated (Max): 0.222" (5.65mm); LastUpdated: 9/2/2020 1:18:39 AM; Lifecycle Status: Active; Minimum Order: 1; Mounting Type: Surface Mount; Operating Temperature: -55°C ~ 105°C; Package / Case: Radial, Can - SMD; Packaging: TapeAndReel; PartId: 9013; Part Status: Active; Price: 0.09; Ratings: AEC-Q200; Series: EEV; Size / Dimension: 0.248" Dia (6.30mm); Supplier 1: DigiKey; Supplier Part Number 1: 399-17342-1-ND; Tolerance: ±20%; Value: 22µF; Voltage - Rated: 50V
footprint CAP ALSMD 6.6MM H6.1MM
pins: 1, 2

## EEV227M025A9MAA
designator C?, comment 220µF
CAP ALUM SMD 105C 220UF 25VDC; Part Number: EEV227M025A9MAA; Manufacturer: KEMET; ESR (Equivalent Series Resistance): 160 mohm @ 100kHz; Impedance: 160 mOhms; Lifetime @ Temp.: 2000 Hrs @ 105°C; Polarization: Polar; Ripple Current @ High Frequency: 600mA @ 100kHz; Ripple Current @ Low Frequency: 420mA @ 120Hz; Surface Mount Land Size: 0.327" L x 0.327" W (8.30mm x 8.30mm); Tolerance: ±20%; Voltage - Rated: 25V; Applications: General Purpose; Capacitance: 220µF; ComponentLink1Description: Datasheet; ComponentLink1URL: https://api.kemet.com/component-edge/download/datasheet/EEV227M025A9MAA.pdf; ComponentLink2Description: DigiKey Link; ComponentLink2URL: http://digikey.com/product-detail/en/kemet/EEV227M025A9MAA/399-18140-1-ND/9354341; Device Package: Radial, Can - SMD; Height - Seated (Max): 0.413" (10.50mm); LastUpdated: 9/2/2020 1:25:15 AM; Lifecycle Status: Active; Minimum Order: 1; Mounting Type: Surface Mount; Operating Temperature: -55°C ~ 105°C; Package / Case: Radial, Can - SMD; Packaging: TapeAndReel; PartId: 7625; Part Status: Active; Price: 0.17; Series: EEV; Size / Dimension: 0.315" Dia (8.00mm); Supplier 1: DigiKey; Supplier Part Number 1: 399-18140-1-ND; Value: 220µF
footprint CAP ALSMD 8.3MM H10.5MM
pins: 1, 2

## EEV336M035A9GAA
designator C?, comment 33µF
CAP ALUM SMD 105C 33UF 35VDC; Part Number: EEV336M035A9GAA; Manufacturer: KEMET; ESR (Equivalent Series Resistance): 520mOhm @ 100kHz; Impedance: 520 mOhms; Lifetime @ Temp.: 2000 Hrs @ 105°C; Polarization: Polar; Ripple Current @ High Frequency: 240mA @ 100kHz; Ripple Current @ Low Frequency: 168mA @ 120Hz; Surface Mount Land Size: 0.260" L x 0.260" W (6.60mm x 6.60mm); Tolerance: ±20%; Voltage - Rated: 35V; Applications: General Purpose; Capacitance: 33µF; ComponentLink1Description: Datasheet; ComponentLink1URL: https://api.kemet.com/component-edge/download/datasheet/EEV336M035A9GAA.pdf; ComponentLink2Description: DigiKey Link; ComponentLink2URL: http://digikey.com/product-detail/en/kemet/EEV336M035A9GAA/399-18141-1-ND/9354342; Device Package: Radial, Can - SMD; Height - Seated (Max): 0.222" (5.65mm); LastUpdated: 9/2/2020 1:18:39 AM; Lifecycle Status: Active; Minimum Order: 1; Mounting Type: Surface Mount; Operating Temperature: -55°C ~ 105°C; Package / Case: Radial, Can - SMD; Packaging: TapeAndReel; PartId: 9015; Part Status: Active; Price: 0.08; Series: EEV; Size / Dimension: 0.248" Dia (6.30mm); Supplier 1: DigiKey; Supplier Part Number 1: 399-18141-1-ND; Value: 33µF
footprint CAP ALSMD 6.6MM H6.1MM
pins: 1, 2

## EEV477M010A9MAA
designator C?, comment 470µF
CAP ALUM SMD 105C 470UF 10VDC; Part Number: EEV477M010A9MAA; Manufacturer: KEMET; ESR (Equivalent Series Resistance): 160 mohm @ 100kHz; Impedance: 160 mOhms; Lifetime @ Temp.: 2000 Hrs @ 105°C; Polarization: Polar; Ripple Current @ High Frequency: 600mA @ 100kHz; Ripple Current @ Low Frequency: 420mA @ 120Hz; Surface Mount Land Size: 0.327" L x 0.327" W (8.30mm x 8.30mm); Tolerance: ±20%; Voltage - Rated: 10V; Applications: General Purpose; Capacitance: 470µF; ComponentLink1Description: Datasheet; ComponentLink1URL: https://api.kemet.com/component-edge/download/datasheet/EEV477M010A9MAA.pdf; ComponentLink2Description: DigiKey Link; ComponentLink2URL: http://digikey.com/product-detail/en/kemet/EEV477M010A9MAA/399-18139-1-ND/9354340; Device Package: Radial, Can - SMD; Height - Seated (Max): 0.413" (10.50mm); LastUpdated: 9/2/2020 1:25:14 AM; Lifecycle Status: Active; Minimum Order: 1; Mounting Type: Surface Mount; Operating Temperature: -55°C ~ 105°C; Package / Case: Radial, Can - SMD; Packaging: TapeAndReel; PartId: 7629; Part Status: Active; Price: 0.20; Series: EEV; Size / Dimension: 0.315" Dia (8.00mm); Supplier 1: DigiKey; Supplier Part Number 1: 399-18139-1-ND; Value: 470µF
footprint CAP ALSMD 8.3MM H10.5MM
pins: 1, 2

## EMHB250ADA221MHA0G
designator C?, comment 220µF
CAP ALUM 220UF 20% 25V SMD; Part Number: EMHB250ADA221MHA0G; Manufacturer: United Chemi-Con; ESR (Equivalent Series Resistance): 300mOhm @ 400kHz; Lifetime @ Temp.: 2000 Hrs @ 125°C; Polarization: Polar; Ripple Current @ High Frequency: 240mA @ 100kHz; Ripple Current @ Low Frequency: 223.2mA @ 120Hz; Surface Mount Land Size: 0.327" L x 0.327" W (8.30mm x 8.30mm); Applications: Automotive; Capacitance: 220µF; ComponentLink1Description: Datasheet; ComponentLink1URL: http://www.chemi-con.co.jp/cgi-bin/CAT_DB/SEARCH/cat_db_al.cgi?e=e&j=p&pdfname=mhb; ComponentLink2Description: DigiKey Link; ComponentLink2URL: http://digikey.com/product-detail/en/united-chemi-con/EMHB250ADA221MHA0G/565-3630-1-ND/3641426; Device Package: Radial, Can - SMD; Height - Seated (Max): 0.413" (10.50mm); LastUpdated: 9/2/2020 1:25:14 AM; Lifecycle Status: Active; Minimum Order: 1; Mounting Type: Surface Mount; Operating Temperature: -40°C ~ 125°C; Package / Case: Radial, Can - SMD; Packaging: TapeAndReel; PartId: 7702; Part Status: Active; Price: 0.39; Ratings: AEC-Q200; Series: Alchip™- MHB; Size / Dimension: 0.315" Dia (8.00mm); Supplier 1: DigiKey; Supplier Part Number 1: 565-3630-1-ND; Tolerance: ±20%; Value: 220µF; Voltage - Rated: 25V
footprint CAP ALSMD 8.3MM H10.5MM
pins: 1, 2